# Altium footprint library PcbLib1.PcbLib: 1 footprints
Each footprint in its own frame and in the unit in brackets; x right, y up, seen from the top. Pads: shape width x height; smd on the part's side, far side on the other; paste and mask are expansions set on the pad; w line width, h text height; cw(c..) or ccw(c..) is an arc to the next point about the centre after c.
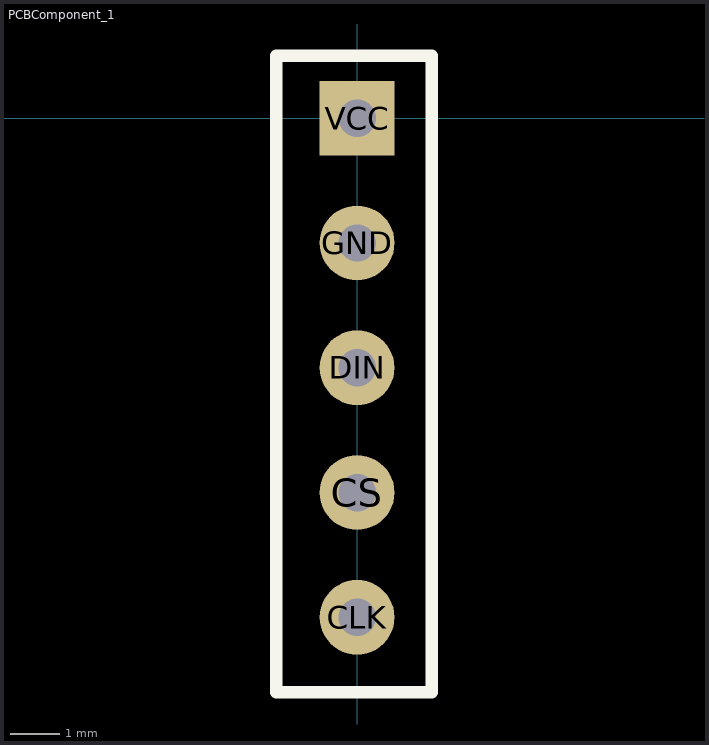
[diagram p0: the footprint, top view; thin cyan lines are the x and y axes]

## PCBComponent_1 [mil]
pads (5):
  round 60 hole 30: CLK(0,-400) CS(0,-300) DIN(0,-200) GND(0,-100)
  rect 60x60 hole 30: VCC(0,0)
Top Overlay:
  lines w10: -65,-460 60,-460 60,50 -65,50 -65,-460
3D body "DISPLAY BOARD 2 x 4 x 7 SEG.stp": height 484.37, standoff 76.89, extent -285,-510.28 2943.35,80.28